# EAGLE library part 750510614 (library Wurth Electronics Midcom Inc - EAGLE Lib V2-1)
Package Style: EP13 Mounting: SMD Pins: 10 pins Bobbin: 070-6146 Best pinouts for production vary per application. Please contact Wurth Electronics Midcom, Inc. for assistance with your custom design. Website: Wurth Electronics Midcom <http://www.we-online.com/midcom> Contact us Wurth Electronics Midcom, Inc. 121 Airport Dr. Watertown, SD 57201 Phone: (605) 886-4385 Fax: (605) 886-4486 E-Mail: midcom@we-online.com
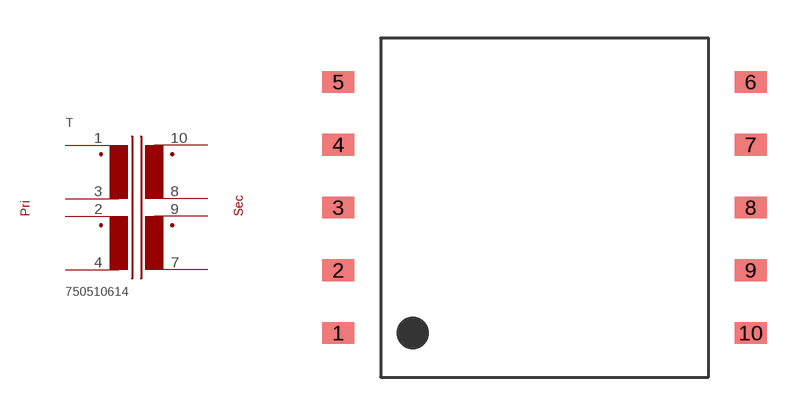
[diagram p185: symbol with the pads of EP13_SMD_H_10PIN_(6146); footprint EP13_SMD_H_10PIN_(6146)]

Designator prefix T

## 750510614  [EP13_SMD_H_10PIN_(6146)]
1  1  pas
2  2  pas
3  3  pas
4  4  pas
7  7  pas
8  8  pas
9  9  pas
10  10  pas

## Footprint EP13_SMD_H_10PIN_(6146) (pad centres in mm)
Package Style: EP13 Mounting: SMD Pins: 10 Bobbin: 070-6146
smd 1.27 x 0.864: 1 -8.179,-4.978; 2 -8.179,-2.489; 3 -8.179,0; 4 -8.179,2.489; 5 -8.179,4.978; 6 8.179,4.978; 7 8.179,2.489; 8 8.179,0; 9 8.179,-2.489; 10 8.179,-4.978